# EAGLE library part R-NET4- (library resistor-network)
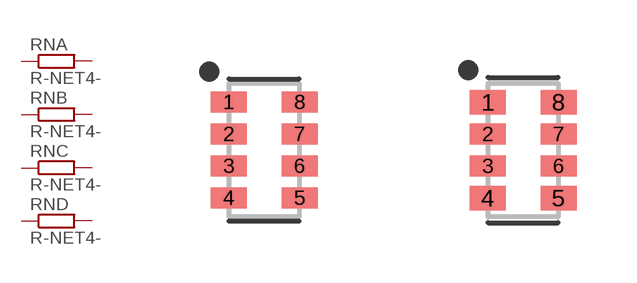
[diagram p0: symbol with the pads of RESCAV80P315X160X60-8N; footprints RESCAV80P315X160X60-8N, RESCAXS80P315X160X60-8N]

Designator prefix RN; gates A=R-EU B=R-EU C=R-EU D=R-EU

## R-NET4-1206C (MANUFACTURER: YAGEO; MPN: TC164-F*)  [RESCAV80P315X160X60-8N]
1  A:1  pas
2  B:1  pas
3  C:1  pas
4  D:1  pas
5  D:2  pas
6  C:2  pas
7  B:2  pas
8  A:2  pas

## R-NET4-1206 (MANUFACTURER: YAGEO; MPN: YC164-F*)  [RESCAXS80P315X160X60-8N]
Pads as for RESCAV80P315X160X60-8N

## Footprint RESCAV80P315X160X60-8N (pad centres in mm)
8-Chiparray 2-Side Flat, 0.80 mm pitch, 3.15 X 1.60 X 0.60 mm body 8-pin Chiparray 2-Side Flat package with 0.80 mm pitch with body size 3.15 X 1.60 X 0.60 mm
smd 0.901 x 0.53: 1 -0.885,1.2; 2 -0.885,0.4; 3 -0.885,-0.4; 4 -0.885,-1.2; 5 0.885,-1.2; 6 0.885,-0.4; 7 0.885,0.4; 8 0.885,1.2

## Footprint RESCAXS80P315X160X60-8N (pad centres in mm)
8-Chiparray 2-Side Convex, 0.80 mm pitch, 3.15 X 1.60 X 0.60 mm body 8-pin Chiparray 2-Side Convex package with 0.80 mm pitch with body size 3.15 X 1.60 X 0.60 mm
smd 0.901 x 0.61: 1 -0.885,1.2; 4 -0.885,-1.2; 5 0.885,-1.2; 8 0.885,1.2
smd 0.901 x 0.53: 2 -0.885,0.4; 3 -0.885,-0.4; 6 0.885,-0.4; 7 0.885,0.4